# EAGLE library part MA08-1 (library con-lstb)
PIN HEADER
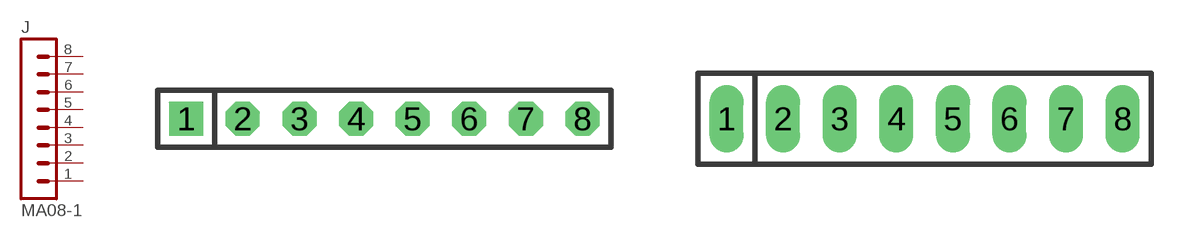
[diagram p12: symbol with the pads of MA08-1; footprints MA08-1, MA08-1Y]

Designator prefix J

## MA08-1  [MA08-1]
1  1  pas
2  2  pas
3  3  pas
4  4  pas
5  5  pas
6  6  pas
7  7  pas
8  8  pas

## MA08-1Y  [MA08-1Y]
Pads as for MA08-1

## Footprint MA08-1 (pad centres in mm)
PIN HEADER
drill 1.016 square: 1 -8.89,0
drill 1.016 octagon: 2 -6.35,0; 3 -3.81,0; 4 -1.27,0; 5 1.27,0; 6 3.81,0; 7 6.35,0; 8 8.89,0

## Footprint MA08-1Y (pad centres in mm)
PIN HEADER
drill 1.016 long: 1 -8.89,0; 2 -6.35,0; 3 -3.81,0; 4 -1.27,0; 5 1.27,0; 6 3.81,0; 7 6.35,0; 8 8.89,0